# Altium schematic symbol library SCH - POWER - MODULE - RECOM RAC05-K.SCHLIB: 1 symbol
Pins are listed as number, name and electrical type; pins without a type are passive.

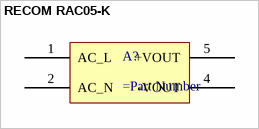
[diagram p0: symbol RECOM RAC05-K]

## RECOM RAC05-K
designator A?
pins: 1 AC_L, 2 AC_N, 4 -VOUT, 5 +VOUT